# Altium schematic symbol library SCH - POWER - SWITCHMODE - TI TPS51113_DRC_10.SchLib: 1 symbol
Pins are listed as number, name and electrical type; pins without a type are passive.

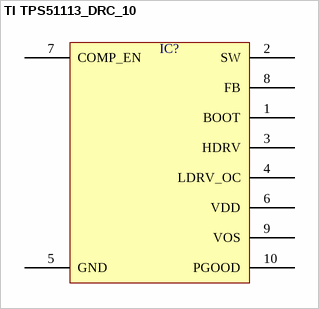
[diagram p0: symbol TI TPS51113_DRC_10]

## TI TPS51113_DRC_10
designator IC?  (value not drawn)
pins: 1 BOOT, 2 SW, 3 HDRV, 4 LDRV_OC, 5 GND, 6 VDD, 7 COMP_EN, 8 FB, 9 VOS, 10 PGOOD